# Altium footprint library C_1210.PcbLib: 1 footprints
Each footprint in its own frame and in the unit in brackets; x right, y up, seen from the top. Pads: shape width x height; smd on the part's side, far side on the other; paste and mask are expansions set on the pad; w line width, h text height; cw(c..) or ccw(c..) is an arc to the next point about the centre after c.
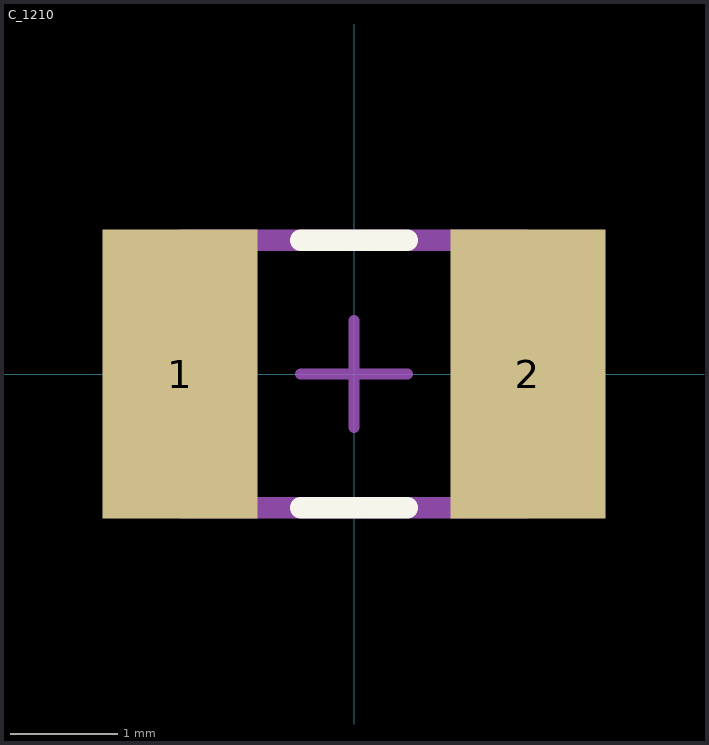
[diagram p0: the footprint, top view; thin cyan lines are the x and y axes]

## C_1210 [mm] "Chip Capacitor, 2-Leads, Body 3,2x2,5mm, IPC Low Density"
height 1.5
pads (2):
  rect 1.45x2.7 smd: 1(-1.625,0) 2(1.625,0)
Top Overlay:
  lines w0.2: -0.5,-1.25 0.5,-1.25 ; -0.5,1.25 0.5,1.25
Mechanical 13:
  lines w0.2: -1.6,-1.25 1.6,-1.25 1.6,1.25 -1.6,1.25 -1.6,-1.25
  text ".Designator" at 0.762,-1.143 h2.5
Mechanical 15:
  lines w0.1: -0.5,0 0.5,0 ; 0,-0.5 0,0.5
3D body: height 0.79, standoff 0.01, extent -1.6,-1.25 1.6,1.25